# EAGLE library part ADS8588HI?* (library ADS8588)
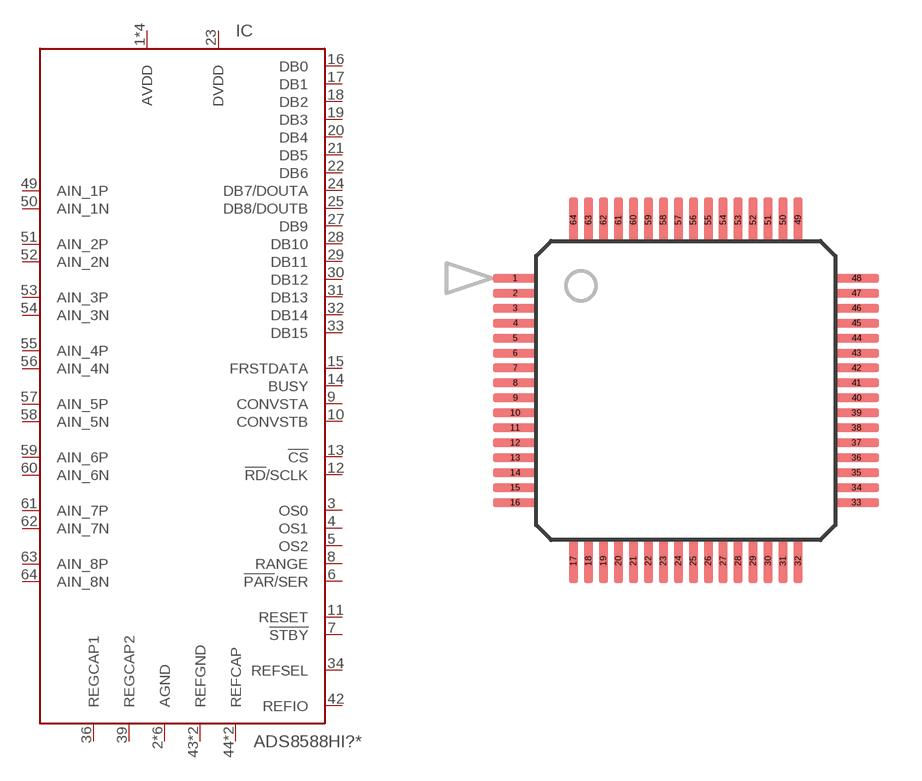
[diagram p0: symbol with the pads of LQFP64-10X10-0.5; footprint LQFP64-10X10-0.5]

Designator prefix IC

## ADS8588HIPM (MARK: ADS8588H; MF: Texas Instruments; MPN: ADS8588HIPM), ADS8588HIPMR (MARK: ADS8588H; MF: Texas Instruments; MPN: ADS8588HIPMR)  [LQFP64-10X10-0.5]
1  AVDD  pwr
2  AGND  pwr
3  OS0  in
4  OS1  in
5  OS2  in
6  !PAR!/SER  in
7  !STBY  in
8  RANGE  in
9  CONVSTA  in
10  CONVSTB  in
11  RESET  in
12  !RD!/SCLK  in
13  !CS  in
14  BUSY  out
15  FRSTDATA  out
16  DB0  out
17  DB1  out
18  DB2  out
19  DB3  out
20  DB4  out
21  DB5  out
22  DB6  out
23  DVDD  pwr
24  DB7/DOUTA  out
25  DB8/DOUTB  out
26  AGND  pwr
27  DB9  out
28  DB10  out
29  DB11  out
30  DB12  out
31  DB13  out
32  DB14  out
33  DB15  out
34  REFSEL  in
35  AGND  pwr
36  REGCAP1
37  AVDD  pwr
38  AVDD  pwr
39  REGCAP2
40  AGND  pwr
41  AGND  pwr
42  REFIO
43  REFGND  in
44  REFCAP  out
45  REFCAP  out
46  REFGND  in
47  AGND  pwr
48  AVDD  pwr
49  AIN_1P  in
50  AIN_1N  in
51  AIN_2P  in
52  AIN_2N  in
53  AIN_3P  in
54  AIN_3N  in
55  AIN_4P  in
56  AIN_4N  in
57  AIN_5P  in
58  AIN_5N  in
59  AIN_6P  in
60  AIN_6N  in
61  AIN_7P  in
62  AIN_7N  in
63  AIN_8P  in
64  AIN_8N  in

## Footprint LQFP64-10X10-0.5 (pad centres in mm)
smd 1.5 x 0.3: 1 -5.7,3.75; 2 -5.7,3.25; 3 -5.7,2.75; 4 -5.7,2.25; 5 -5.7,1.75; 6 -5.7,1.25; 7 -5.7,0.75; 8 -5.7,0.25; 9 -5.7,-0.25; 10 -5.7,-0.75; 11 -5.7,-1.25; 12 -5.7,-1.75; 13 -5.7,-2.25; 14 -5.7,-2.75; 15 -5.7,-3.25; 16 -5.7,-3.75; 33 5.7,-3.75; 34 5.7,-3.25; 35 5.7,-2.75; 36 5.7,-2.25; 37 5.7,-1.75; 38 5.7,-1.25; 39 5.7,-0.75; 40 5.7,-0.25; 41 5.7,0.25; 42 5.7,0.75; 43 5.7,1.25; 44 5.7,1.75; 45 5.7,2.25; 46 5.7,2.75; 47 5.7,3.25; 48 5.7,3.75
smd 0.3 x 1.5: 17 -3.75,-5.7; 18 -3.25,-5.7; 19 -2.75,-5.7; 20 -2.25,-5.7; 21 -1.75,-5.7; 22 -1.25,-5.7; 23 -0.75,-5.7; 24 -0.25,-5.7; 25 0.25,-5.7; 26 0.75,-5.7; 27 1.25,-5.7; 28 1.75,-5.7; 29 2.25,-5.7; 30 2.75,-5.7; 31 3.25,-5.7; 32 3.75,-5.7; 49 3.75,5.7; 50 3.25,5.7; 51 2.75,5.7; 52 2.25,5.7; 53 1.75,5.7; 54 1.25,5.7; 55 0.75,5.7; 56 0.25,5.7; 57 -0.25,5.7; 58 -0.75,5.7; 59 -1.25,5.7; 60 -1.75,5.7; 61 -2.25,5.7; 62 -2.75,5.7; 63 -3.25,5.7; 64 -3.75,5.7